# EAGLE library part R2A20169SA#W5 (library ICs)
8-bit 12ch D/A Converter with Buffer Amplifiers
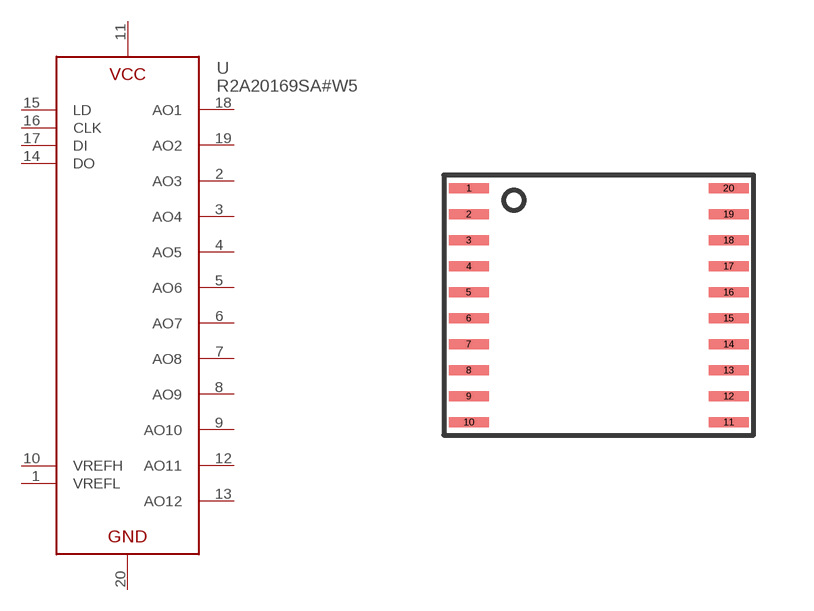
[diagram p337: symbol with the pads of TSSOP20; footprint TSSOP20]

Designator prefix U

## R2A20169SA#W5 (DIGIKEY: 559-R2A20169SA#W5CT-ND; HEIGHT: 1.5; PRICE_PER: 2.31; VALUE: R2A20169SA#W5)  [TSSOP20]
1  VREFL
2  AO3
3  AO4
4  AO5
5  AO6
6  AO7
7  AO8
8  AO9
9  AO10
10  VREFH
11  VCC
12  AO11
13  AO12
14  DO
15  LD
16  CLK
17  DI
18  AO1
19  AO2
20  GND

## Footprint TSSOP20 (pad centres in mm)
smd 1 x 0.25: 1 -3.25,2.925; 2 -3.25,2.275; 3 -3.25,1.625; 4 -3.25,0.975; 5 -3.25,0.325; 6 -3.25,-0.325; 7 -3.25,-0.975; 8 -3.25,-1.625; 9 -3.25,-2.275; 10 -3.25,-2.925; 11 3.25,-2.925; 12 3.25,-2.275; 13 3.25,-1.625; 14 3.25,-0.975; 15 3.25,-0.325; 16 3.25,0.325; 17 3.25,0.975; 18 3.25,1.625; 19 3.25,2.275; 20 3.25,2.925